# EAGLE library part M80-53210 (library BrownSpaceEngineering)
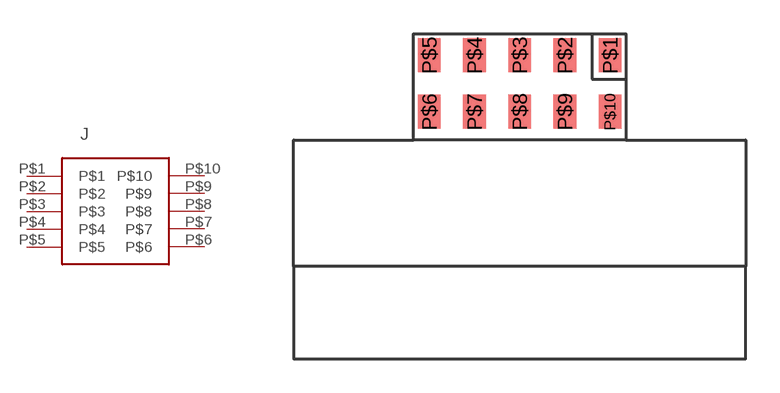
[diagram p12: symbol with the pads of M80-53210; footprint M80-53210]

Designator prefix J

## M80-53210  [M80-53210]
P$1  P$1
P$2  P$2
P$3  P$3
P$4  P$4
P$5  P$5
P$6  P$6
P$7  P$7
P$8  P$8
P$9  P$9
P$10  P$10

## Footprint M80-53210 (pad centres in mm)
smd 1 x 1.5: P$1 4,1.25; P$2 2,1.25; P$3 0,1.25; P$4 -2,1.25; P$5 -4,1.25; P$6 -4,-1.25; P$7 -2,-1.25; P$8 0,-1.25; P$9 2,-1.25; P$10 4,-1.25